# EAGLE library part CON_02X05 (library mfconnectors)
Library: MF_Connectors Description: Header Connector with 10 Positions and 02 Rows. Use the LABEL Attribute to label the pin on the schematic and PCB. You can remove the attributes on the PCB by using the SMASH function on the part and then deleting the text.
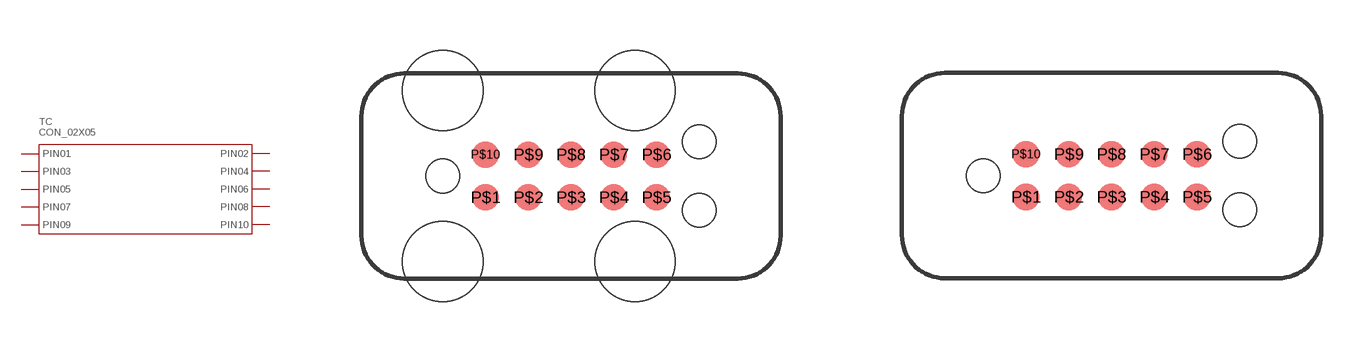
[diagram p38: symbol with the pads of TC2050-IDC-FP; footprints TC2050-IDC-FP, TC2050-IDC-NL]

Designator prefix TC

## CON_02X05_TC2050-IDC (HOUSEPART: NO; MPN: TC2050-IDC; POPULATE: 0; URL: http://www.tag-connect.com/Materials/TC2050-IDC%20Datasheet.pdf; VALUE: TC2050-IDC), CON_02X05_ALTERA_BYTEBLASTER_TC2050-IDC (HOUSEPART: NO; LABEL01: TCK; LABEL02: GND; LABEL03: TDO; LABEL04: VCC(REF); LABEL05: TMS; LABEL06: !SRST; LABEL07: VSUPPLY; LABEL08: !TRST; LABEL09: TDI; LABEL10: GND; MPN: TC2050-IDC; POPULATE: 0; URL: http://www.tag-connect.com/byteblaster; VALUE: TC2050-IDC)  [TC2050-IDC-FP]
P$1  PIN1
P$2  PIN2
P$3  PIN3
P$4  PIN4
P$5  PIN5
P$6  PIN6
P$7  PIN7
P$8  PIN8
P$9  PIN9
P$10  PIN10

## CON_02X05_TC2050-IDC-NL (HOUSEPART: NO; MPN: TC2050-IDC-NL; POPULATE: 0; URL: http://www.tag-connect.com/Materials/TC2050-IDC-NL%20Datasheet.pdf; VALUE: TC2050-IDC-NL), CON_02X05_ALTERA_BYTEBLASTER_TC2050-IDC-NL (HOUSEPART: NO; LABEL01: TCK; LABEL02: GND; LABEL03: TDO; LABEL04: VCC(REF); LABEL05: TMS; LABEL06: !SRST; LABEL07: Vsupply; LABEL08: !TRST; LABEL09: TDI; LABEL10: GND; MPN: TC2050-IDC-NL; POPULATE: 0; URL: http://www.tag-connect.com/byteblaster; VALUE: TC2050-IDC-NL)  [TC2050-IDC-NL]
Pads as for TC2050-IDC-FP

## Footprint TC2050-IDC-FP (pad centres in mm)
Description: Package for Tag Connect TC2050-FP style
smd 0.787 x 0.787: P$1 -2.54,-0.635; P$2 -1.27,-0.635; P$3 0,-0.635; P$4 1.27,-0.635; P$5 2.54,-0.635; P$6 2.54,0.635; P$7 1.27,0.635; P$8 0,0.635; P$9 -1.27,0.635; P$10 -2.54,0.635
hole 0.991 at 3.81,1.016
hole 0.991 at 3.81,-1.016
hole 0.991 at -3.81,0
hole 2.375 at -3.81,2.54
hole 2.375 at 1.905,2.54
hole 2.375 at 1.905,-2.54
hole 2.375 at -3.81,-2.54

## Footprint TC2050-IDC-NL (pad centres in mm)
Description: Package for Tag Connect TC2050-NL style
smd 0.787 x 0.787: P$1 -2.54,-0.635; P$2 -1.27,-0.635; P$3 0,-0.635; P$4 1.27,-0.635; P$5 2.54,-0.635; P$6 2.54,0.635; P$7 1.27,0.635; P$8 0,0.635; P$9 -1.27,0.635; P$10 -2.54,0.635
hole 0.991 at 3.81,1.016
hole 0.991 at 3.81,-1.016
hole 0.991 at -3.81,0